# Altium schematic symbol library kmilo17pet-LT_PMIC_LT.SchLib: 2252 symbols (part 24 of 124)
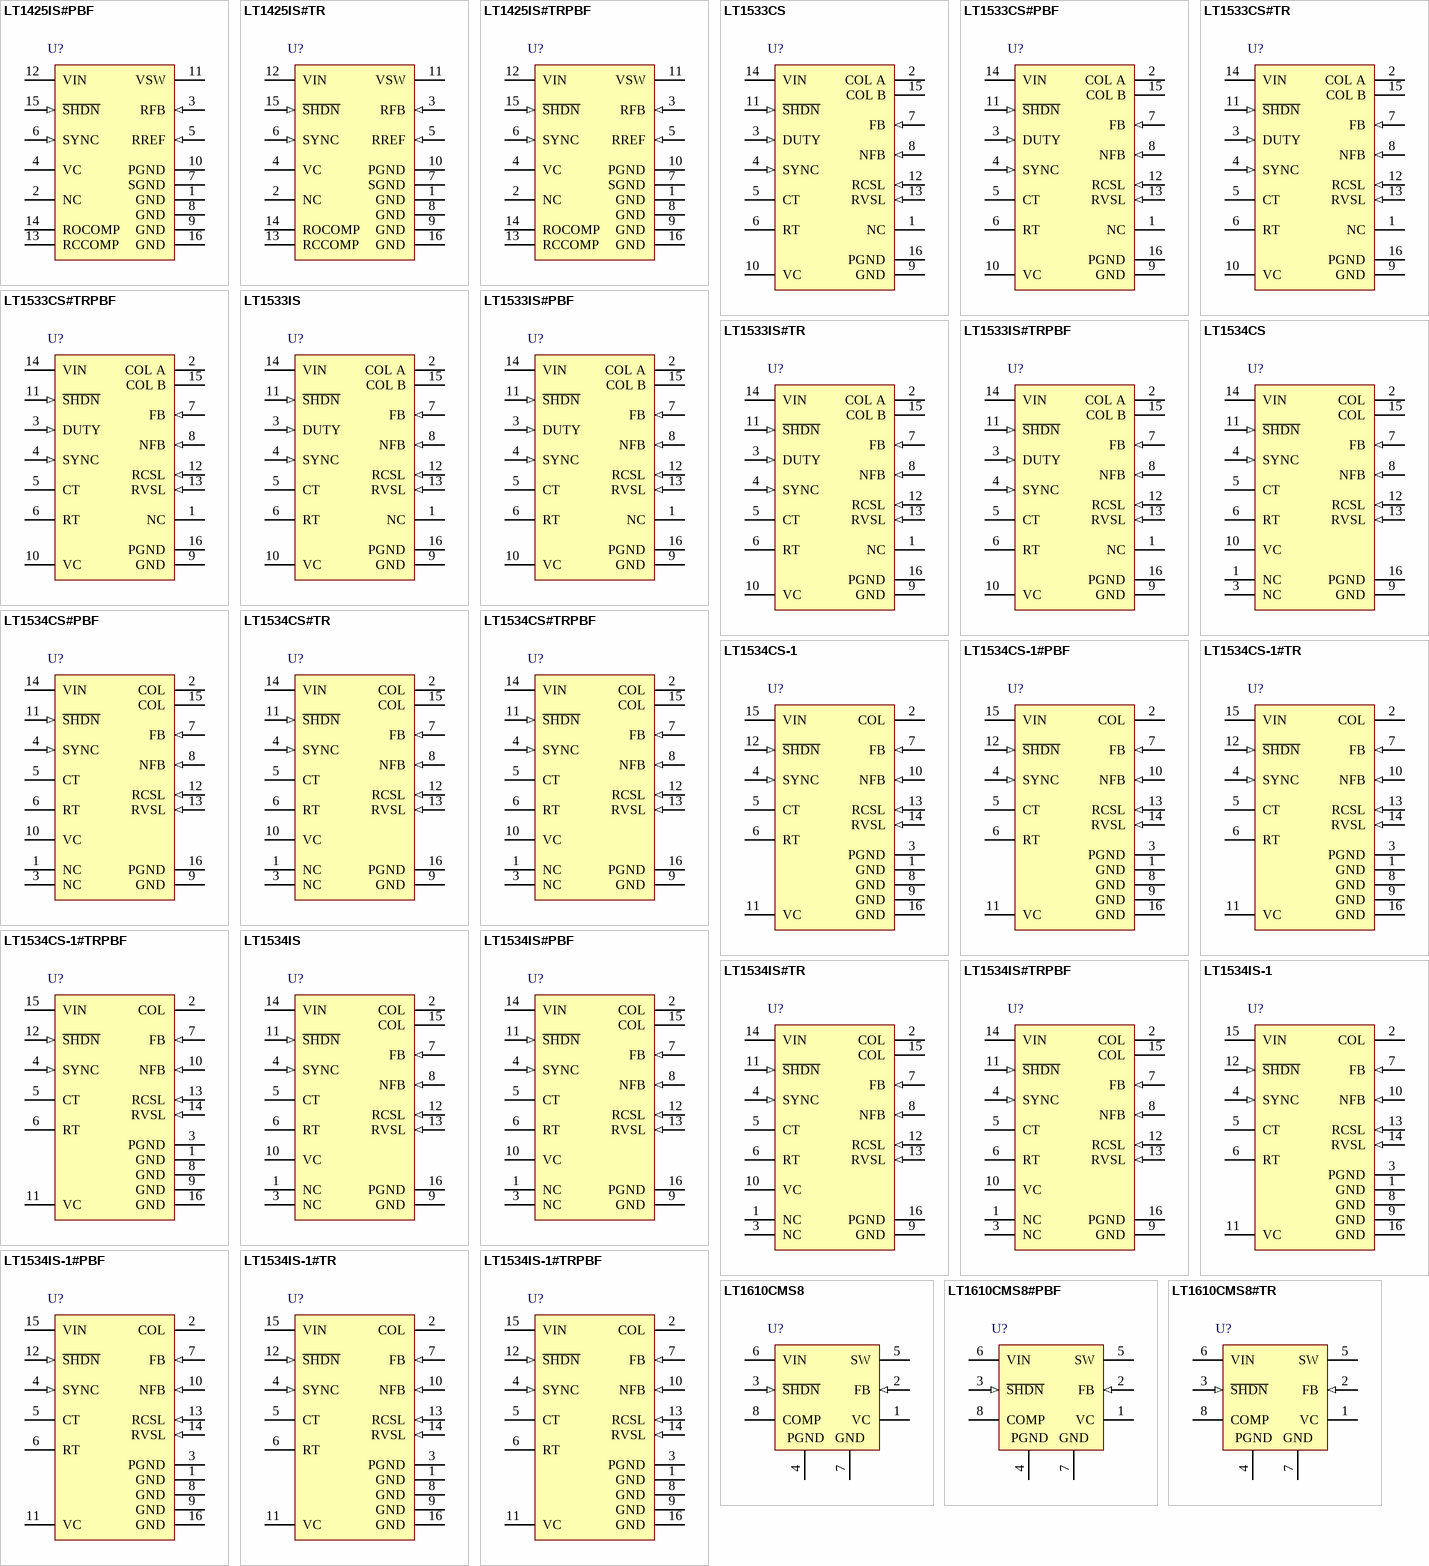
[diagram p94: symbols LT1425IS#PBF to LT1610CMS8#TR]

## LT1534IS-1#TR
designator U?
Ultralow Noise 2 A Switching Regulator, 16-pin SOP (S-16), -40 to 125 degC, Tape and Reel; Manufacturer: Linear Technology; PartNumber: LT1534IS-1#TR; Number of Outputs: 1; PackageReference: S-16; PackageDescription: 16-Pin Plastic Small Outline, Body 9.9 x 3.9 mm, Pitch 1.27 mm; Supplier 1: Digi-Key; Supplier Part Number 1: LT1534IS-1#TR-ND; RoHS: FALSE
footprint LT-S-16_N (SOP, 16-Leads, Body 10x4mm, Pitch 1.27mm, IPC Medium Density)
footprint LT-S-16_L (SOP, 16-Leads, Body 10x4mm, Pitch 1.27mm, IPC High Density)
footprint LT-S-16_M (SOP, 16-Leads, Body 10x4mm, Pitch 1.27mm, IPC Low Density)
pins: 1 GND (power) "Signal Ground. The internal error amplifier, negative feedback amplifier, oscillator, slew control circuitry and the bandgap reference are referred to this ground. Keep the connection to the feedback divider and VC (See Datasheet)", 2 COL (power) "These two pins should be connected together externally to create the collector of the power switch. The emitter returns to PGND through a sense resistor. Large currents flow into these pins so it is desirable to keep (See Datasheet)", 3 PGND (power) "Power Switch Ground. This ground comes from the emitters of the power switches. In normal operation this pin should have approximately 25nH inductance to ground. This can be done by trace inductance (approximately 1") or (See Datasheet)", 4 SYNC (in) "The SYNC pin can be used to synchronize the oscillator to an external clock (see Oscillator Sync inApplications Information section for more details). The SYNC pin may either be floated or tied to ground if not used.", 5 CT "The oscillator capacitor pin is used in conjunction with RT to set the oscillator frequency. For RT = 16.9k,", 6 RT "The oscillator resistor pin is used to set the charge and discharge currents of the oscillator capacitor. The nominal value is 16.9k. It is possible to adjust this resistance +/-25% to get a more accurate oscillator (See Datasheet)", 7 FB (in) "The feedback pin is used for positive voltage sensing and oscillator frequency shifting during start-up and short-circuit conditions. It is the inverting input to the error amplifier. The noninverting input of this amplifier (See Datasheet)", 8 GND (power) "Signal Ground. The internal error amplifier, negative feedback amplifier, oscillator, slew control circuitry and the bandgap reference are referred to this ground. Keep the connection to the feedback divider and VC (See Datasheet)", 9 GND (power) "Signal Ground. The internal error amplifier, negative feedback amplifier, oscillator, slew control circuitry and the bandgap reference are referred to this ground. Keep the connection to the feedback divider and VC (See Datasheet)", 10 NFB (in) "The negative voltage feedback pin is used for sensing a negative output voltage. The pin is connected to the inverting input of the negative feedback amplifier through a 100k source resistor. The negative feedback amplifier (See Datasheet)", 11 VC "The compensation pin is used for frequency compensation and current limiting. It is the output of the error amplifier and the input of the current comparator. Loop frequency compensation can be performed with an RC network (See Datasheet)", 12 ~{SHDN} (in) "The shutdown pin is used for disabling the switcher. Grounding this pin will disable all internal circuitry. Normally this output can be tied high (to VIN) or may be left floating.", 13 RCSL (in) "A resistor to ground sets the current slew rate for the power switch. The minimum resistor value is 3.9k and the maximum value is 68k. Current slew will be approximately", 14 RVSL (in) "A resistor to ground sets the voltage slew rate for the power switch collector. The minimum resistor value is 3.9k and the maximum value is 68k. Voltage slew will be approximately", 15 VIN (power) "Input Supply Pin. Bypass this pin with a>=4.7uF low ESR capacitor. When VIN is below 2.55V the part will go into undervoltage lockout where it will stop output switching and pull the VC pin low.", 16 GND (power) "Signal Ground. The internal error amplifier, negative feedback amplifier, oscillator, slew control circuitry and the bandgap reference are referred to this ground. Keep the connection to the feedback divider and VC (See Datasheet)"

## LT1534IS-1#TRPBF
designator U?
Ultralow Noise 2 A Switching Regulator, 16-pin SOP (S-16), -40 to 125 degC, Pb-Free, Tape and Reel; Manufacturer: Linear Technology; PartNumber: LT1534IS-1#TRPBF; Number of Outputs: 1; PackageReference: S-16; PackageDescription: 16-Pin Plastic Small Outline, Body 9.9 x 3.9 mm, Pitch 1.27 mm; Supplier 1: Digi-Key; Supplier Part Number 1: LT1534IS-1#TRPBF-ND; RoHS: TRUE
footprint LT-S-16_N (SOP, 16-Leads, Body 10x4mm, Pitch 1.27mm, IPC Medium Density)
footprint LT-S-16_L (SOP, 16-Leads, Body 10x4mm, Pitch 1.27mm, IPC High Density)
footprint LT-S-16_M (SOP, 16-Leads, Body 10x4mm, Pitch 1.27mm, IPC Low Density)
pins: 1 GND (power) "Signal Ground. The internal error amplifier, negative feedback amplifier, oscillator, slew control circuitry and the bandgap reference are referred to this ground. Keep the connection to the feedback divider and VC (See Datasheet)", 2 COL (power) "These two pins should be connected together externally to create the collector of the power switch. The emitter returns to PGND through a sense resistor. Large currents flow into these pins so it is desirable to keep (See Datasheet)", 3 PGND (power) "Power Switch Ground. This ground comes from the emitters of the power switches. In normal operation this pin should have approximately 25nH inductance to ground. This can be done by trace inductance (approximately 1") or (See Datasheet)", 4 SYNC (in) "The SYNC pin can be used to synchronize the oscillator to an external clock (see Oscillator Sync inApplications Information section for more details). The SYNC pin may either be floated or tied to ground if not used.", 5 CT "The oscillator capacitor pin is used in conjunction with RT to set the oscillator frequency. For RT = 16.9k,", 6 RT "The oscillator resistor pin is used to set the charge and discharge currents of the oscillator capacitor. The nominal value is 16.9k. It is possible to adjust this resistance +/-25% to get a more accurate oscillator (See Datasheet)", 7 FB (in) "The feedback pin is used for positive voltage sensing and oscillator frequency shifting during start-up and short-circuit conditions. It is the inverting input to the error amplifier. The noninverting input of this amplifier (See Datasheet)", 8 GND (power) "Signal Ground. The internal error amplifier, negative feedback amplifier, oscillator, slew control circuitry and the bandgap reference are referred to this ground. Keep the connection to the feedback divider and VC (See Datasheet)", 9 GND (power) "Signal Ground. The internal error amplifier, negative feedback amplifier, oscillator, slew control circuitry and the bandgap reference are referred to this ground. Keep the connection to the feedback divider and VC (See Datasheet)", 10 NFB (in) "The negative voltage feedback pin is used for sensing a negative output voltage. The pin is connected to the inverting input of the negative feedback amplifier through a 100k source resistor. The negative feedback amplifier (See Datasheet)", 11 VC "The compensation pin is used for frequency compensation and current limiting. It is the output of the error amplifier and the input of the current comparator. Loop frequency compensation can be performed with an RC network (See Datasheet)", 12 ~{SHDN} (in) "The shutdown pin is used for disabling the switcher. Grounding this pin will disable all internal circuitry. Normally this output can be tied high (to VIN) or may be left floating.", 13 RCSL (in) "A resistor to ground sets the current slew rate for the power switch. The minimum resistor value is 3.9k and the maximum value is 68k. Current slew will be approximately", 14 RVSL (in) "A resistor to ground sets the voltage slew rate for the power switch collector. The minimum resistor value is 3.9k and the maximum value is 68k. Voltage slew will be approximately", 15 VIN (power) "Input Supply Pin. Bypass this pin with a>=4.7uF low ESR capacitor. When VIN is below 2.55V the part will go into undervoltage lockout where it will stop output switching and pull the VC pin low.", 16 GND (power) "Signal Ground. The internal error amplifier, negative feedback amplifier, oscillator, slew control circuitry and the bandgap reference are referred to this ground. Keep the connection to the feedback divider and VC (See Datasheet)"

## LT1610CMS8
designator U?
1.7 MHz, Single Cell Micropower DC/DC Converter, 8-pin SOP (MS8-8), 0 to 70 degC; Manufacturer: Linear Technology; PartNumber: LT1610CMS8; Number of Outputs: 1; PackageReference: MS8; PackageDescription: 8-Pin Plastic MSOP, Body 3 x 3 mm, Pitch 0.65 mm; Supplier 1: Digi-Key; Supplier Part Number 1: LT1610CMS8-ND; RoHS: FALSE
footprint LT-MS8_N (SOP, 8-Leads, Body 3.1x3.1mm, Pitch 0.65mm, IPC Medium Density)
footprint LT-MS8_L (SOP, 8-Leads, Body 3.1x3.1mm, Pitch 0.65mm, IPC High Density)
footprint LT-MS8_M (SOP, 8-Leads, Body 3.1x3.1mm, Pitch 0.65mm, IPC Low Density)
pins: 1 VC "Error Amplifier Output. Frequency compensation network must be connected to this pin, either internal (COMP pin) or external series RC to ground. 220kohm/ 220pF typical value.", 2 FB (in) "Feedback Pin. Reference voltage is 1.23V. Connect resistive divider tap here. Minimize trace area at FB. Set VOUT according to VOUT = 1.23V (1 + R1/R2).", 3 ~{SHDN} (in) "Shutdown. Ground this pin to turn off device. Tie to 1V or more to enable.", 4 PGND (power) "Power Ground. Tie directly to local ground plane.", 5 SW (power) "Switch Pin. Connect inductor/diode here. Minimize trace area at this pin to keep EMI down.", 6 VIN (power) "Input Supply Pin. Must be locally bypassed.", 7 GND (power) "Signal Ground. Carries all device ground current except switch current. Tie to local ground plane.", 8 COMP "Internal Compensation Network. Tie to VC pin, or let float if external compensation is used. Output capacitor must be tantalum if COMP pin is used for compensation."

## LT1610CMS8#PBF
designator U?
1.7 MHz, Single Cell Micropower DC/DC Converter, 8-pin SOP (MS8-8), 0 to 70 degC, Pb-Free; Manufacturer: Linear Technology; PartNumber: LT1610CMS8#PBF; Number of Outputs: 1; PackageReference: MS8; PackageDescription: 8-Pin Plastic MSOP, Body 3 x 3 mm, Pitch 0.65 mm; Supplier 1: Digi-Key; Supplier Part Number 1: LT1610CMS8#PBF-ND; RoHS: TRUE
footprint LT-MS8_N (SOP, 8-Leads, Body 3.1x3.1mm, Pitch 0.65mm, IPC Medium Density)
footprint LT-MS8_L (SOP, 8-Leads, Body 3.1x3.1mm, Pitch 0.65mm, IPC High Density)
footprint LT-MS8_M (SOP, 8-Leads, Body 3.1x3.1mm, Pitch 0.65mm, IPC Low Density)
pins: 1 VC "Error Amplifier Output. Frequency compensation network must be connected to this pin, either internal (COMP pin) or external series RC to ground. 220kohm/ 220pF typical value.", 2 FB (in) "Feedback Pin. Reference voltage is 1.23V. Connect resistive divider tap here. Minimize trace area at FB. Set VOUT according to VOUT = 1.23V (1 + R1/R2).", 3 ~{SHDN} (in) "Shutdown. Ground this pin to turn off device. Tie to 1V or more to enable.", 4 PGND (power) "Power Ground. Tie directly to local ground plane.", 5 SW (power) "Switch Pin. Connect inductor/diode here. Minimize trace area at this pin to keep EMI down.", 6 VIN (power) "Input Supply Pin. Must be locally bypassed.", 7 GND (power) "Signal Ground. Carries all device ground current except switch current. Tie to local ground plane.", 8 COMP "Internal Compensation Network. Tie to VC pin, or let float if external compensation is used. Output capacitor must be tantalum if COMP pin is used for compensation."

## LT1610CMS8#TR
designator U?
1.7 MHz, Single Cell Micropower DC/DC Converter, 8-pin SOP (MS8-8), 0 to 70 degC, Tape and Reel; Manufacturer: Linear Technology; PartNumber: LT1610CMS8#TR; Number of Outputs: 1; PackageReference: MS8; PackageDescription: 8-Pin Plastic MSOP, Body 3 x 3 mm, Pitch 0.65 mm; Supplier 1: Digi-Key; Supplier Part Number 1: LT1610CMS8#TR-ND; RoHS: FALSE
footprint LT-MS8_N (SOP, 8-Leads, Body 3.1x3.1mm, Pitch 0.65mm, IPC Medium Density)
footprint LT-MS8_L (SOP, 8-Leads, Body 3.1x3.1mm, Pitch 0.65mm, IPC High Density)
footprint LT-MS8_M (SOP, 8-Leads, Body 3.1x3.1mm, Pitch 0.65mm, IPC Low Density)
pins: 1 VC "Error Amplifier Output. Frequency compensation network must be connected to this pin, either internal (COMP pin) or external series RC to ground. 220kohm/ 220pF typical value.", 2 FB (in) "Feedback Pin. Reference voltage is 1.23V. Connect resistive divider tap here. Minimize trace area at FB. Set VOUT according to VOUT = 1.23V (1 + R1/R2).", 3 ~{SHDN} (in) "Shutdown. Ground this pin to turn off device. Tie to 1V or more to enable.", 4 PGND (power) "Power Ground. Tie directly to local ground plane.", 5 SW (power) "Switch Pin. Connect inductor/diode here. Minimize trace area at this pin to keep EMI down.", 6 VIN (power) "Input Supply Pin. Must be locally bypassed.", 7 GND (power) "Signal Ground. Carries all device ground current except switch current. Tie to local ground plane.", 8 COMP "Internal Compensation Network. Tie to VC pin, or let float if external compensation is used. Output capacitor must be tantalum if COMP pin is used for compensation."

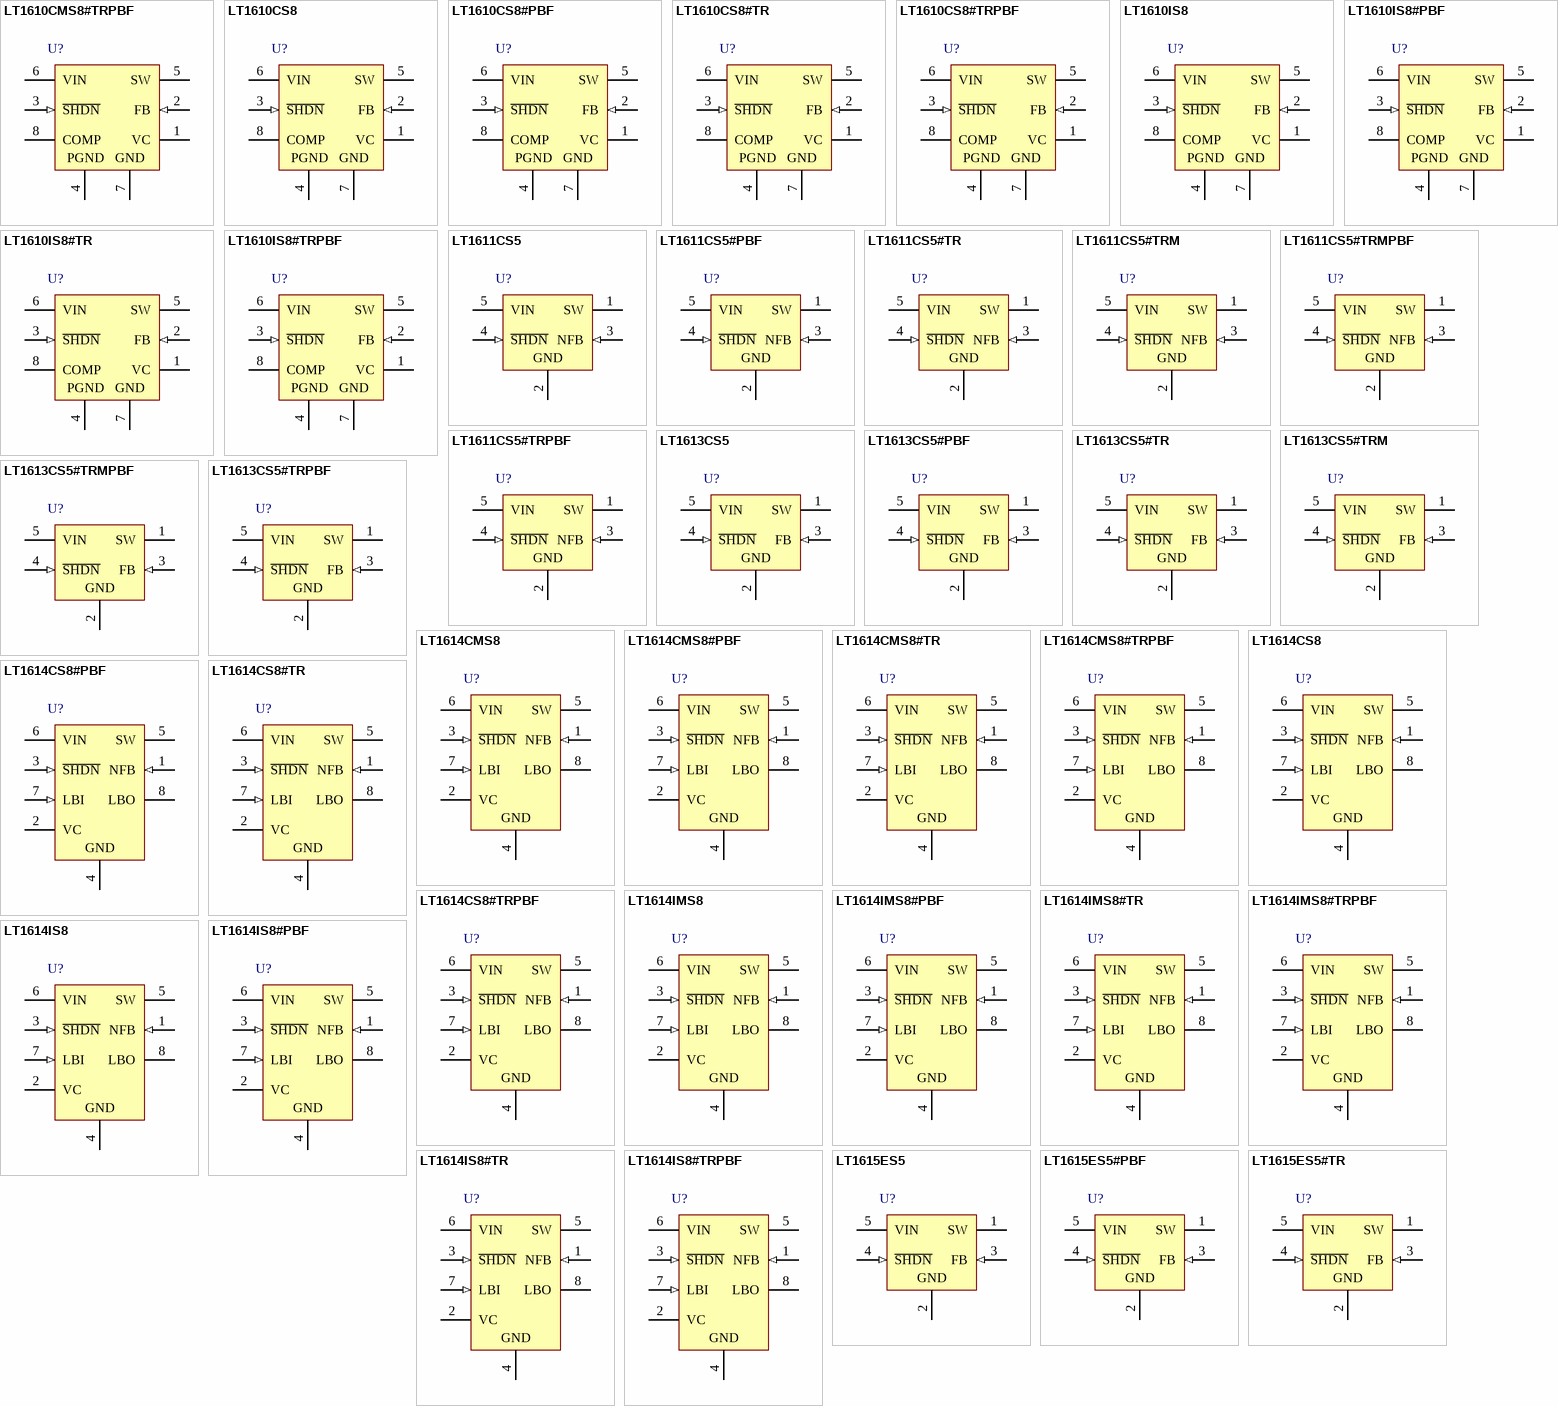
[diagram p16: symbols LT1610CMS8#TRPBF to LT1615ES5#TR]

## LT1610CMS8#TRPBF
designator U?
1.7 MHz, Single Cell Micropower DC/DC Converter, 8-pin SOP (MS8-8), 0 to 70 degC, Pb-Free, Tape and Reel; Manufacturer: Linear Technology; PartNumber: LT1610CMS8#TRPBF; Number of Outputs: 1; PackageReference: MS8; PackageDescription: 8-Pin Plastic MSOP, Body 3 x 3 mm, Pitch 0.65 mm; Supplier 1: Digi-Key; Supplier Part Number 1: LT1610CMS8#TRPBF-ND; RoHS: TRUE
footprint LT-MS8_N (SOP, 8-Leads, Body 3.1x3.1mm, Pitch 0.65mm, IPC Medium Density)
footprint LT-MS8_L (SOP, 8-Leads, Body 3.1x3.1mm, Pitch 0.65mm, IPC High Density)
footprint LT-MS8_M (SOP, 8-Leads, Body 3.1x3.1mm, Pitch 0.65mm, IPC Low Density)
pins: 1 VC "Error Amplifier Output. Frequency compensation network must be connected to this pin, either internal (COMP pin) or external series RC to ground. 220kohm/ 220pF typical value.", 2 FB (in) "Feedback Pin. Reference voltage is 1.23V. Connect resistive divider tap here. Minimize trace area at FB. Set VOUT according to VOUT = 1.23V (1 + R1/R2).", 3 ~{SHDN} (in) "Shutdown. Ground this pin to turn off device. Tie to 1V or more to enable.", 4 PGND (power) "Power Ground. Tie directly to local ground plane.", 5 SW (power) "Switch Pin. Connect inductor/diode here. Minimize trace area at this pin to keep EMI down.", 6 VIN (power) "Input Supply Pin. Must be locally bypassed.", 7 GND (power) "Signal Ground. Carries all device ground current except switch current. Tie to local ground plane.", 8 COMP "Internal Compensation Network. Tie to VC pin, or let float if external compensation is used. Output capacitor must be tantalum if COMP pin is used for compensation."

## LT1610CS8
designator U?
1.7 MHz, Single Cell Micropower DC/DC Converter, 8-pin SOIC (S8-8), 0 to 70 degC; Manufacturer: Linear Technology; PartNumber: LT1610CS8; Number of Outputs: 1; PackageReference: S8-8; PackageDescription: 8-Pin Plastic Small Outline (Narrow .150 Inch), Body 4.9 x 3.9 mm, Pitch 1.27 mm; Supplier 1: Digi-Key; Supplier Part Number 1: LT1610CS8-ND; RoHS: FALSE
footprint LT-S8-8_N (SOIC, 8-Leads, Body 5x4mm, Pitch 1.27mm, IPC Medium Density)
footprint LT-S8-8_L (SOIC, 8-Leads, Body 5x4mm, Pitch 1.27mm, IPC High Density)
footprint LT-S8-8_M (SOIC, 8-Leads, Body 5x4mm, Pitch 1.27mm, IPC Low Density)
pins: 1 VC "Error Amplifier Output. Frequency compensation network must be connected to this pin, either internal (COMP pin) or external series RC to ground. 220kohm/ 220pF typical value.", 2 FB (in) "Feedback Pin. Reference voltage is 1.23V. Connect resistive divider tap here. Minimize trace area at FB. Set VOUT according to VOUT = 1.23V (1 + R1/R2).", 3 ~{SHDN} (in) "Shutdown. Ground this pin to turn off device. Tie to 1V or more to enable.", 4 PGND (power) "Power Ground. Tie directly to local ground plane.", 5 SW (power) "Switch Pin. Connect inductor/diode here. Minimize trace area at this pin to keep EMI down.", 6 VIN (power) "Input Supply Pin. Must be locally bypassed.", 7 GND (power) "Signal Ground. Carries all device ground current except switch current. Tie to local ground plane.", 8 COMP "Internal Compensation Network. Tie to VC pin, or let float if external compensation is used. Output capacitor must be tantalum if COMP pin is used for compensation."

## LT1610CS8#PBF
designator U?
1.7 MHz, Single Cell Micropower DC/DC Converter, 8-pin SOIC (S8-8), 0 to 70 degC, Pb-Free; Manufacturer: Linear Technology; PartNumber: LT1610CS8#PBF; Number of Outputs: 1; PackageReference: S8-8; PackageDescription: 8-Pin Plastic Small Outline (Narrow .150 Inch), Body 4.9 x 3.9 mm, Pitch 1.27 mm; Supplier 1: Digi-Key; Supplier Part Number 1: LT1610CS8#PBF-ND; RoHS: TRUE
footprint LT-S8-8_N (SOIC, 8-Leads, Body 5x4mm, Pitch 1.27mm, IPC Medium Density)
footprint LT-S8-8_L (SOIC, 8-Leads, Body 5x4mm, Pitch 1.27mm, IPC High Density)
footprint LT-S8-8_M (SOIC, 8-Leads, Body 5x4mm, Pitch 1.27mm, IPC Low Density)
pins: 1 VC "Error Amplifier Output. Frequency compensation network must be connected to this pin, either internal (COMP pin) or external series RC to ground. 220kohm/ 220pF typical value.", 2 FB (in) "Feedback Pin. Reference voltage is 1.23V. Connect resistive divider tap here. Minimize trace area at FB. Set VOUT according to VOUT = 1.23V (1 + R1/R2).", 3 ~{SHDN} (in) "Shutdown. Ground this pin to turn off device. Tie to 1V or more to enable.", 4 PGND (power) "Power Ground. Tie directly to local ground plane.", 5 SW (power) "Switch Pin. Connect inductor/diode here. Minimize trace area at this pin to keep EMI down.", 6 VIN (power) "Input Supply Pin. Must be locally bypassed.", 7 GND (power) "Signal Ground. Carries all device ground current except switch current. Tie to local ground plane.", 8 COMP "Internal Compensation Network. Tie to VC pin, or let float if external compensation is used. Output capacitor must be tantalum if COMP pin is used for compensation."

## LT1610CS8#TR
designator U?
1.7 MHz, Single Cell Micropower DC/DC Converter, 8-pin SOIC (S8-8), 0 to 70 degC, Tape and Reel; Manufacturer: Linear Technology; PartNumber: LT1610CS8#TR; Number of Outputs: 1; PackageReference: S8-8; PackageDescription: 8-Pin Plastic Small Outline (Narrow .150 Inch), Body 4.9 x 3.9 mm, Pitch 1.27 mm; Supplier 1: Digi-Key; Supplier Part Number 1: LT1610CS8#TR-ND; RoHS: FALSE
footprint LT-S8-8_N (SOIC, 8-Leads, Body 5x4mm, Pitch 1.27mm, IPC Medium Density)
footprint LT-S8-8_L (SOIC, 8-Leads, Body 5x4mm, Pitch 1.27mm, IPC High Density)
footprint LT-S8-8_M (SOIC, 8-Leads, Body 5x4mm, Pitch 1.27mm, IPC Low Density)
pins: 1 VC "Error Amplifier Output. Frequency compensation network must be connected to this pin, either internal (COMP pin) or external series RC to ground. 220kohm/ 220pF typical value.", 2 FB (in) "Feedback Pin. Reference voltage is 1.23V. Connect resistive divider tap here. Minimize trace area at FB. Set VOUT according to VOUT = 1.23V (1 + R1/R2).", 3 ~{SHDN} (in) "Shutdown. Ground this pin to turn off device. Tie to 1V or more to enable.", 4 PGND (power) "Power Ground. Tie directly to local ground plane.", 5 SW (power) "Switch Pin. Connect inductor/diode here. Minimize trace area at this pin to keep EMI down.", 6 VIN (power) "Input Supply Pin. Must be locally bypassed.", 7 GND (power) "Signal Ground. Carries all device ground current except switch current. Tie to local ground plane.", 8 COMP "Internal Compensation Network. Tie to VC pin, or let float if external compensation is used. Output capacitor must be tantalum if COMP pin is used for compensation."

## LT1610CS8#TRPBF
designator U?
1.7 MHz, Single Cell Micropower DC/DC Converter, 8-pin SOIC (S8-8), 0 to 70 degC, Pb-Free, Tape and Reel; Manufacturer: Linear Technology; PartNumber: LT1610CS8#TRPBF; Number of Outputs: 1; PackageReference: S8-8; PackageDescription: 8-Pin Plastic Small Outline (Narrow .150 Inch), Body 4.9 x 3.9 mm, Pitch 1.27 mm; Supplier 1: Digi-Key; Supplier Part Number 1: LT1610CS8#TRPBF-ND; RoHS: TRUE
footprint LT-S8-8_N (SOIC, 8-Leads, Body 5x4mm, Pitch 1.27mm, IPC Medium Density)
footprint LT-S8-8_L (SOIC, 8-Leads, Body 5x4mm, Pitch 1.27mm, IPC High Density)
footprint LT-S8-8_M (SOIC, 8-Leads, Body 5x4mm, Pitch 1.27mm, IPC Low Density)
pins: 1 VC "Error Amplifier Output. Frequency compensation network must be connected to this pin, either internal (COMP pin) or external series RC to ground. 220kohm/ 220pF typical value.", 2 FB (in) "Feedback Pin. Reference voltage is 1.23V. Connect resistive divider tap here. Minimize trace area at FB. Set VOUT according to VOUT = 1.23V (1 + R1/R2).", 3 ~{SHDN} (in) "Shutdown. Ground this pin to turn off device. Tie to 1V or more to enable.", 4 PGND (power) "Power Ground. Tie directly to local ground plane.", 5 SW (power) "Switch Pin. Connect inductor/diode here. Minimize trace area at this pin to keep EMI down.", 6 VIN (power) "Input Supply Pin. Must be locally bypassed.", 7 GND (power) "Signal Ground. Carries all device ground current except switch current. Tie to local ground plane.", 8 COMP "Internal Compensation Network. Tie to VC pin, or let float if external compensation is used. Output capacitor must be tantalum if COMP pin is used for compensation."

## LT1610IS8
designator U?
1.7 MHz, Single Cell Micropower DC/DC Converter, 8-pin SOIC (S8-8), -40 to 85 degC; Manufacturer: Linear Technology; PartNumber: LT1610IS8; Number of Outputs: 1; PackageReference: S8-8; PackageDescription: 8-Pin Plastic Small Outline (Narrow .150 Inch), Body 4.9 x 3.9 mm, Pitch 1.27 mm; Supplier 1: Digi-Key; Supplier Part Number 1: LT1610IS8-ND; RoHS: FALSE
footprint LT-S8-8_N (SOIC, 8-Leads, Body 5x4mm, Pitch 1.27mm, IPC Medium Density)
footprint LT-S8-8_L (SOIC, 8-Leads, Body 5x4mm, Pitch 1.27mm, IPC High Density)
footprint LT-S8-8_M (SOIC, 8-Leads, Body 5x4mm, Pitch 1.27mm, IPC Low Density)
pins: 1 VC "Error Amplifier Output. Frequency compensation network must be connected to this pin, either internal (COMP pin) or external series RC to ground. 220kohm/ 220pF typical value.", 2 FB (in) "Feedback Pin. Reference voltage is 1.23V. Connect resistive divider tap here. Minimize trace area at FB. Set VOUT according to VOUT = 1.23V (1 + R1/R2).", 3 ~{SHDN} (in) "Shutdown. Ground this pin to turn off device. Tie to 1V or more to enable.", 4 PGND (power) "Power Ground. Tie directly to local ground plane.", 5 SW (power) "Switch Pin. Connect inductor/diode here. Minimize trace area at this pin to keep EMI down.", 6 VIN (power) "Input Supply Pin. Must be locally bypassed.", 7 GND (power) "Signal Ground. Carries all device ground current except switch current. Tie to local ground plane.", 8 COMP "Internal Compensation Network. Tie to VC pin, or let float if external compensation is used. Output capacitor must be tantalum if COMP pin is used for compensation."

## LT1610IS8#PBF
designator U?
1.7 MHz, Single Cell Micropower DC/DC Converter, 8-pin SOIC (S8-8), -40 to 85 degC, Pb-Free; Manufacturer: Linear Technology; PartNumber: LT1610IS8#PBF; Number of Outputs: 1; PackageReference: S8-8; PackageDescription: 8-Pin Plastic Small Outline (Narrow .150 Inch), Body 4.9 x 3.9 mm, Pitch 1.27 mm; Supplier 1: Digi-Key; Supplier Part Number 1: LT1610IS8#PBF-ND; RoHS: TRUE
footprint LT-S8-8_N (SOIC, 8-Leads, Body 5x4mm, Pitch 1.27mm, IPC Medium Density)
footprint LT-S8-8_L (SOIC, 8-Leads, Body 5x4mm, Pitch 1.27mm, IPC High Density)
footprint LT-S8-8_M (SOIC, 8-Leads, Body 5x4mm, Pitch 1.27mm, IPC Low Density)
pins: 1 VC "Error Amplifier Output. Frequency compensation network must be connected to this pin, either internal (COMP pin) or external series RC to ground. 220kohm/ 220pF typical value.", 2 FB (in) "Feedback Pin. Reference voltage is 1.23V. Connect resistive divider tap here. Minimize trace area at FB. Set VOUT according to VOUT = 1.23V (1 + R1/R2).", 3 ~{SHDN} (in) "Shutdown. Ground this pin to turn off device. Tie to 1V or more to enable.", 4 PGND (power) "Power Ground. Tie directly to local ground plane.", 5 SW (power) "Switch Pin. Connect inductor/diode here. Minimize trace area at this pin to keep EMI down.", 6 VIN (power) "Input Supply Pin. Must be locally bypassed.", 7 GND (power) "Signal Ground. Carries all device ground current except switch current. Tie to local ground plane.", 8 COMP "Internal Compensation Network. Tie to VC pin, or let float if external compensation is used. Output capacitor must be tantalum if COMP pin is used for compensation."

## LT1610IS8#TR
designator U?
1.7 MHz, Single Cell Micropower DC/DC Converter, 8-pin SOIC (S8-8), -40 to 85 degC, Tape and Reel; Manufacturer: Linear Technology; PartNumber: LT1610IS8#TR; Number of Outputs: 1; PackageReference: S8-8; PackageDescription: 8-Pin Plastic Small Outline (Narrow .150 Inch), Body 4.9 x 3.9 mm, Pitch 1.27 mm; Supplier 1: Digi-Key; Supplier Part Number 1: LT1610IS8#TR-ND; RoHS: FALSE
footprint LT-S8-8_N (SOIC, 8-Leads, Body 5x4mm, Pitch 1.27mm, IPC Medium Density)
footprint LT-S8-8_L (SOIC, 8-Leads, Body 5x4mm, Pitch 1.27mm, IPC High Density)
footprint LT-S8-8_M (SOIC, 8-Leads, Body 5x4mm, Pitch 1.27mm, IPC Low Density)
pins: 1 VC "Error Amplifier Output. Frequency compensation network must be connected to this pin, either internal (COMP pin) or external series RC to ground. 220kohm/ 220pF typical value.", 2 FB (in) "Feedback Pin. Reference voltage is 1.23V. Connect resistive divider tap here. Minimize trace area at FB. Set VOUT according to VOUT = 1.23V (1 + R1/R2).", 3 ~{SHDN} (in) "Shutdown. Ground this pin to turn off device. Tie to 1V or more to enable.", 4 PGND (power) "Power Ground. Tie directly to local ground plane.", 5 SW (power) "Switch Pin. Connect inductor/diode here. Minimize trace area at this pin to keep EMI down.", 6 VIN (power) "Input Supply Pin. Must be locally bypassed.", 7 GND (power) "Signal Ground. Carries all device ground current except switch current. Tie to local ground plane.", 8 COMP "Internal Compensation Network. Tie to VC pin, or let float if external compensation is used. Output capacitor must be tantalum if COMP pin is used for compensation."

## LT1610IS8#TRPBF
designator U?
1.7 MHz, Single Cell Micropower DC/DC Converter, 8-pin SOIC (S8-8), -40 to 85 degC, Pb-Free, Tape and Reel; Manufacturer: Linear Technology; PartNumber: LT1610IS8#TRPBF; Number of Outputs: 1; PackageReference: S8-8; PackageDescription: 8-Pin Plastic Small Outline (Narrow .150 Inch), Body 4.9 x 3.9 mm, Pitch 1.27 mm; Supplier 1: Digi-Key; Supplier Part Number 1: LT1610IS8#TRPBF-ND; RoHS: TRUE
footprint LT-S8-8_N (SOIC, 8-Leads, Body 5x4mm, Pitch 1.27mm, IPC Medium Density)
footprint LT-S8-8_L (SOIC, 8-Leads, Body 5x4mm, Pitch 1.27mm, IPC High Density)
footprint LT-S8-8_M (SOIC, 8-Leads, Body 5x4mm, Pitch 1.27mm, IPC Low Density)
pins: 1 VC "Error Amplifier Output. Frequency compensation network must be connected to this pin, either internal (COMP pin) or external series RC to ground. 220kohm/ 220pF typical value.", 2 FB (in) "Feedback Pin. Reference voltage is 1.23V. Connect resistive divider tap here. Minimize trace area at FB. Set VOUT according to VOUT = 1.23V (1 + R1/R2).", 3 ~{SHDN} (in) "Shutdown. Ground this pin to turn off device. Tie to 1V or more to enable.", 4 PGND (power) "Power Ground. Tie directly to local ground plane.", 5 SW (power) "Switch Pin. Connect inductor/diode here. Minimize trace area at this pin to keep EMI down.", 6 VIN (power) "Input Supply Pin. Must be locally bypassed.", 7 GND (power) "Signal Ground. Carries all device ground current except switch current. Tie to local ground plane.", 8 COMP "Internal Compensation Network. Tie to VC pin, or let float if external compensation is used. Output capacitor must be tantalum if COMP pin is used for compensation."

## LT1611CS5
designator U?
Inverting 1.4 MHz Switching Regulator, 5-pin SOT23 (S5-5), 0 to 70 degC; Manufacturer: Linear Technology; PartNumber: LT1611CS5; Number of Outputs: 1; PackageReference: S5-5; PackageDescription: 5-Pin Plastic SOT-23, Body 1.625 x 2.90 mm, Pitch 0.95 mm; RoHS: FALSE
footprint LT-S5-5-SOT-23_N (SOT23, 5-Leads, Body 3x1.75mm, Pitch 0.95mm, IPC Medium Density)
footprint LT-S5-5-SOT-23_L (SOT23, 5-Leads, Body 3x1.75mm, Pitch 0.95mm, IPC High Density)
footprint LT-S5-5-SOT-23_M (SOT23, 5-Leads, Body 3x1.75mm, Pitch 0.95mm, IPC Low Density)
pins: 1 SW (power) "Switch Pin. Minimize trace area at this pin to keep EMI down.", 2 GND (power) "Ground. Tie directly to local ground plane.", 3 NFB (in) "Negative Feedback Pin.", 4 ~{SHDN} (in) "Shutdown Pin.", 5 VIN (power) "Input Supply Pin. Must be locally bypassed."

## LT1611CS5#PBF
designator U?
Inverting 1.4 MHz Switching Regulator, 5-pin SOT23 (S5-5), 0 to 70 degC, Pb-Free; Manufacturer: Linear Technology; PartNumber: LT1611CS5#PBF; Number of Outputs: 1; PackageReference: S5-5; PackageDescription: 5-Pin Plastic SOT-23, Body 1.625 x 2.90 mm, Pitch 0.95 mm; Supplier 1: Farnell; Supplier Part Number 1: 1531482; RoHS: TRUE
footprint LT-S5-5-SOT-23_N (SOT23, 5-Leads, Body 3x1.75mm, Pitch 0.95mm, IPC Medium Density)
footprint LT-S5-5-SOT-23_L (SOT23, 5-Leads, Body 3x1.75mm, Pitch 0.95mm, IPC High Density)
footprint LT-S5-5-SOT-23_M (SOT23, 5-Leads, Body 3x1.75mm, Pitch 0.95mm, IPC Low Density)
pins: 1 SW (power) "Switch Pin. Minimize trace area at this pin to keep EMI down.", 2 GND (power) "Ground. Tie directly to local ground plane.", 3 NFB (in) "Negative Feedback Pin.", 4 ~{SHDN} (in) "Shutdown Pin.", 5 VIN (power) "Input Supply Pin. Must be locally bypassed."

## LT1611CS5#TR
designator U?
Inverting 1.4 MHz Switching Regulator, 5-pin SOT23 (S5-5), 0 to 70 degC, Tape and Reel; Manufacturer: Linear Technology; PartNumber: LT1611CS5#TR; Number of Outputs: 1; PackageReference: S5-5; PackageDescription: 5-Pin Plastic SOT-23, Body 1.625 x 2.90 mm, Pitch 0.95 mm; Supplier 1: Digi-Key; Supplier Part Number 1: LT1611CS5#TR-ND; RoHS: FALSE
footprint LT-S5-5-SOT-23_N (SOT23, 5-Leads, Body 3x1.75mm, Pitch 0.95mm, IPC Medium Density)
footprint LT-S5-5-SOT-23_L (SOT23, 5-Leads, Body 3x1.75mm, Pitch 0.95mm, IPC High Density)
footprint LT-S5-5-SOT-23_M (SOT23, 5-Leads, Body 3x1.75mm, Pitch 0.95mm, IPC Low Density)
pins: 1 SW (power) "Switch Pin. Minimize trace area at this pin to keep EMI down.", 2 GND (power) "Ground. Tie directly to local ground plane.", 3 NFB (in) "Negative Feedback Pin.", 4 ~{SHDN} (in) "Shutdown Pin.", 5 VIN (power) "Input Supply Pin. Must be locally bypassed."

## LT1611CS5#TRM
designator U?
Inverting 1.4 MHz Switching Regulator, 5-pin SOT23 (S5-5), 0 to 70 degC, Mini Tape and Reel; Manufacturer: Linear Technology; PartNumber: LT1611CS5#TRM; Number of Outputs: 1; PackageReference: S5-5; PackageDescription: 5-Pin Plastic SOT-23, Body 1.625 x 2.90 mm, Pitch 0.95 mm; Supplier 1: Digi-Key; Supplier Part Number 1: LT1611CS5#TRMTR-ND; RoHS: FALSE
footprint LT-S5-5-SOT-23_N (SOT23, 5-Leads, Body 3x1.75mm, Pitch 0.95mm, IPC Medium Density)
footprint LT-S5-5-SOT-23_L (SOT23, 5-Leads, Body 3x1.75mm, Pitch 0.95mm, IPC High Density)
footprint LT-S5-5-SOT-23_M (SOT23, 5-Leads, Body 3x1.75mm, Pitch 0.95mm, IPC Low Density)
pins: 1 SW (power) "Switch Pin. Minimize trace area at this pin to keep EMI down.", 2 GND (power) "Ground. Tie directly to local ground plane.", 3 NFB (in) "Negative Feedback Pin.", 4 ~{SHDN} (in) "Shutdown Pin.", 5 VIN (power) "Input Supply Pin. Must be locally bypassed."

## LT1611CS5#TRMPBF
designator U?
Inverting 1.4 MHz Switching Regulator, 5-pin SOT23 (S5-5), 0 to 70 degC, Pb-Free, Mini Tape and Reel; Manufacturer: Linear Technology; PartNumber: LT1611CS5#TRMPBF; Number of Outputs: 1; PackageReference: S5-5; PackageDescription: 5-Pin Plastic SOT-23, Body 1.625 x 2.90 mm, Pitch 0.95 mm; Supplier 1: Digi-Key; Supplier Part Number 1: LT1611CS5#TRMPBFTR-ND; RoHS: TRUE
footprint LT-S5-5-SOT-23_N (SOT23, 5-Leads, Body 3x1.75mm, Pitch 0.95mm, IPC Medium Density)
footprint LT-S5-5-SOT-23_L (SOT23, 5-Leads, Body 3x1.75mm, Pitch 0.95mm, IPC High Density)
footprint LT-S5-5-SOT-23_M (SOT23, 5-Leads, Body 3x1.75mm, Pitch 0.95mm, IPC Low Density)
pins: 1 SW (power) "Switch Pin. Minimize trace area at this pin to keep EMI down.", 2 GND (power) "Ground. Tie directly to local ground plane.", 3 NFB (in) "Negative Feedback Pin.", 4 ~{SHDN} (in) "Shutdown Pin.", 5 VIN (power) "Input Supply Pin. Must be locally bypassed."

## LT1611CS5#TRPBF
designator U?
Inverting 1.4 MHz Switching Regulator, 5-pin SOT23 (S5-5), 0 to 70 degC, Pb-Free, Tape and Reel; Manufacturer: Linear Technology; PartNumber: LT1611CS5#TRPBF; Number of Outputs: 1; PackageReference: S5-5; PackageDescription: 5-Pin Plastic SOT-23, Body 1.625 x 2.90 mm, Pitch 0.95 mm; Supplier 1: Digi-Key; Supplier Part Number 1: LT1611CS5#TRPBF-ND; RoHS: TRUE
footprint LT-S5-5-SOT-23_N (SOT23, 5-Leads, Body 3x1.75mm, Pitch 0.95mm, IPC Medium Density)
footprint LT-S5-5-SOT-23_L (SOT23, 5-Leads, Body 3x1.75mm, Pitch 0.95mm, IPC High Density)
footprint LT-S5-5-SOT-23_M (SOT23, 5-Leads, Body 3x1.75mm, Pitch 0.95mm, IPC Low Density)
pins: 1 SW (power) "Switch Pin. Minimize trace area at this pin to keep EMI down.", 2 GND (power) "Ground. Tie directly to local ground plane.", 3 NFB (in) "Negative Feedback Pin.", 4 ~{SHDN} (in) "Shutdown Pin.", 5 VIN (power) "Input Supply Pin. Must be locally bypassed."

## LT1613CS5
designator U?
1.4 MHz, Single Cell DC/DC Converter, 5-pin SOT23 (S5-5), 0 to 70 degC; Manufacturer: Linear Technology; PartNumber: LT1613CS5; Number of Outputs: 1; PackageReference: S5-5; PackageDescription: 5-Pin Plastic SOT-23, Body 1.625 x 2.90 mm, Pitch 0.95 mm; RoHS: FALSE
footprint LT-S5-5-SOT-23_N (SOT23, 5-Leads, Body 3x1.75mm, Pitch 0.95mm, IPC Medium Density)
footprint LT-S5-5-SOT-23_L (SOT23, 5-Leads, Body 3x1.75mm, Pitch 0.95mm, IPC High Density)
footprint LT-S5-5-SOT-23_M (SOT23, 5-Leads, Body 3x1.75mm, Pitch 0.95mm, IPC Low Density)
pins: 1 SW (power) "Switch Pin. Connect inductor/diode here. Minimize trace at this pin to reduce EMI.", 2 GND (power) "Ground Pin. Tie directly to local ground plane.", 3 FB (in) "Feedback Pin.", 4 ~{SHDN} (in) "Shutdown Pin.", 5 VIN (power) "Input Supply Pin. Must be locally bypassed."

## LT1613CS5#PBF
designator U?
1.4 MHz, Single Cell DC/DC Converter, 5-pin SOT23 (S5-5), 0 to 70 degC, Pb-Free; Manufacturer: Linear Technology; PartNumber: LT1613CS5#PBF; Number of Outputs: 1; PackageReference: S5-5; PackageDescription: 5-Pin Plastic SOT-23, Body 1.625 x 2.90 mm, Pitch 0.95 mm; Supplier 1: Farnell; Supplier Part Number 1: 2115857; RoHS: TRUE
footprint LT-S5-5-SOT-23_N (SOT23, 5-Leads, Body 3x1.75mm, Pitch 0.95mm, IPC Medium Density)
footprint LT-S5-5-SOT-23_L (SOT23, 5-Leads, Body 3x1.75mm, Pitch 0.95mm, IPC High Density)
footprint LT-S5-5-SOT-23_M (SOT23, 5-Leads, Body 3x1.75mm, Pitch 0.95mm, IPC Low Density)
pins: 1 SW (power) "Switch Pin. Connect inductor/diode here. Minimize trace at this pin to reduce EMI.", 2 GND (power) "Ground Pin. Tie directly to local ground plane.", 3 FB (in) "Feedback Pin.", 4 ~{SHDN} (in) "Shutdown Pin.", 5 VIN (power) "Input Supply Pin. Must be locally bypassed."

## LT1613CS5#TR
designator U?
1.4 MHz, Single Cell DC/DC Converter, 5-pin SOT23 (S5-5), 0 to 70 degC, Tape and Reel; Manufacturer: Linear Technology; PartNumber: LT1613CS5#TR; Number of Outputs: 1; PackageReference: S5-5; PackageDescription: 5-Pin Plastic SOT-23, Body 1.625 x 2.90 mm, Pitch 0.95 mm; Supplier 1: Digi-Key; Supplier Part Number 1: LT1613CS5#TR-ND; RoHS: FALSE
footprint LT-S5-5-SOT-23_N (SOT23, 5-Leads, Body 3x1.75mm, Pitch 0.95mm, IPC Medium Density)
footprint LT-S5-5-SOT-23_L (SOT23, 5-Leads, Body 3x1.75mm, Pitch 0.95mm, IPC High Density)
footprint LT-S5-5-SOT-23_M (SOT23, 5-Leads, Body 3x1.75mm, Pitch 0.95mm, IPC Low Density)
pins: 1 SW (power) "Switch Pin. Connect inductor/diode here. Minimize trace at this pin to reduce EMI.", 2 GND (power) "Ground Pin. Tie directly to local ground plane.", 3 FB (in) "Feedback Pin.", 4 ~{SHDN} (in) "Shutdown Pin.", 5 VIN (power) "Input Supply Pin. Must be locally bypassed."

## LT1613CS5#TRM
designator U?
1.4 MHz, Single Cell DC/DC Converter, 5-pin SOT23 (S5-5), 0 to 70 degC, Mini Tape and Reel; Manufacturer: Linear Technology; PartNumber: LT1613CS5#TRM; Number of Outputs: 1; PackageReference: S5-5; PackageDescription: 5-Pin Plastic SOT-23, Body 1.625 x 2.90 mm, Pitch 0.95 mm; Supplier 1: Digi-Key; Supplier Part Number 1: LT1613CS5#TRMTR-ND; RoHS: FALSE
footprint LT-S5-5-SOT-23_N (SOT23, 5-Leads, Body 3x1.75mm, Pitch 0.95mm, IPC Medium Density)
footprint LT-S5-5-SOT-23_L (SOT23, 5-Leads, Body 3x1.75mm, Pitch 0.95mm, IPC High Density)
footprint LT-S5-5-SOT-23_M (SOT23, 5-Leads, Body 3x1.75mm, Pitch 0.95mm, IPC Low Density)
pins: 1 SW (power) "Switch Pin. Connect inductor/diode here. Minimize trace at this pin to reduce EMI.", 2 GND (power) "Ground Pin. Tie directly to local ground plane.", 3 FB (in) "Feedback Pin.", 4 ~{SHDN} (in) "Shutdown Pin.", 5 VIN (power) "Input Supply Pin. Must be locally bypassed."

## LT1613CS5#TRMPBF
designator U?
1.4 MHz, Single Cell DC/DC Converter, 5-pin SOT23 (S5-5), 0 to 70 degC, Pb-Free, Mini Tape and Reel; Manufacturer: Linear Technology; PartNumber: LT1613CS5#TRMPBF; Number of Outputs: 1; PackageReference: S5-5; PackageDescription: 5-Pin Plastic SOT-23, Body 1.625 x 2.90 mm, Pitch 0.95 mm; Supplier 1: Digi-Key; Supplier Part Number 1: LT1613CS5#TRMPBFTR-ND; RoHS: TRUE
footprint LT-S5-5-SOT-23_N (SOT23, 5-Leads, Body 3x1.75mm, Pitch 0.95mm, IPC Medium Density)
footprint LT-S5-5-SOT-23_L (SOT23, 5-Leads, Body 3x1.75mm, Pitch 0.95mm, IPC High Density)
footprint LT-S5-5-SOT-23_M (SOT23, 5-Leads, Body 3x1.75mm, Pitch 0.95mm, IPC Low Density)
pins: 1 SW (power) "Switch Pin. Connect inductor/diode here. Minimize trace at this pin to reduce EMI.", 2 GND (power) "Ground Pin. Tie directly to local ground plane.", 3 FB (in) "Feedback Pin.", 4 ~{SHDN} (in) "Shutdown Pin.", 5 VIN (power) "Input Supply Pin. Must be locally bypassed."

## LT1613CS5#TRPBF
designator U?
1.4 MHz, Single Cell DC/DC Converter, 5-pin SOT23 (S5-5), 0 to 70 degC, Pb-Free, Tape and Reel; Manufacturer: Linear Technology; PartNumber: LT1613CS5#TRPBF; Number of Outputs: 1; PackageReference: S5-5; PackageDescription: 5-Pin Plastic SOT-23, Body 1.625 x 2.90 mm, Pitch 0.95 mm; Supplier 1: Digi-Key; Supplier Part Number 1: LT1613CS5#TRPBF-ND; RoHS: TRUE
footprint LT-S5-5-SOT-23_N (SOT23, 5-Leads, Body 3x1.75mm, Pitch 0.95mm, IPC Medium Density)
footprint LT-S5-5-SOT-23_L (SOT23, 5-Leads, Body 3x1.75mm, Pitch 0.95mm, IPC High Density)
footprint LT-S5-5-SOT-23_M (SOT23, 5-Leads, Body 3x1.75mm, Pitch 0.95mm, IPC Low Density)
pins: 1 SW (power) "Switch Pin. Connect inductor/diode here. Minimize trace at this pin to reduce EMI.", 2 GND (power) "Ground Pin. Tie directly to local ground plane.", 3 FB (in) "Feedback Pin.", 4 ~{SHDN} (in) "Shutdown Pin.", 5 VIN (power) "Input Supply Pin. Must be locally bypassed."

## LT1614CMS8
designator U?
Inverting 600 KHz Switching Regulator, 8-pin SOP (MS8-8), 0 to 70 degC; Manufacturer: Linear Technology; PartNumber: LT1614CMS8; Number of Outputs: 1; PackageReference: MS8; PackageDescription: 8-Pin Plastic MSOP, Body 3 x 3 mm, Pitch 0.65 mm; Supplier 1: Digi-Key; Supplier Part Number 1: LT1614CMS8-ND; RoHS: FALSE
footprint LT-MS8_N (SOP, 8-Leads, Body 3.1x3.1mm, Pitch 0.65mm, IPC Medium Density)
footprint LT-MS8_L (SOP, 8-Leads, Body 3.1x3.1mm, Pitch 0.65mm, IPC High Density)
footprint LT-MS8_M (SOP, 8-Leads, Body 3.1x3.1mm, Pitch 0.65mm, IPC Low Density)
pins: 1 NFB (in) "Negative Feedback Pin. Reference voltage is -1.24V. Connect resistive divider tap here. The suggested value for R2 is 24.9k.", 2 VC "Compensation Pin for Error Amplifier. Connect a series RC from this pin to ground. Typical values are 100k ohm and 1nF. Minimize trace area at VC.", 3 ~{SHDN} (in) "Shutdown. Ground this pin to turn off switcher. Must be tied to VIN (or higher voltage) to enable switcher. Do not float the S\H\D\N\ pin.", 4 GND (power) "Ground. Connect directly to local ground plane.", 5 SW (power) "Switch Pin. Minimize trace area at this pin to keep EMI down.", 6 VIN (power) "Supply Pin. Must have 1uF ceramic bypass capacitor right at the pin, connected directly to ground.", 7 LBI (in) "Low-Battery Detector Input. 200mV reference. Voltage on LBI must stay between ground and 700mV. Float this pin if not used.", 8 LBO (hiz) "Low-Battery Detector Output. Open collector, can sink 10uA. A 1Mohm pull-up is recommended. Float this pin if not used. The low-battery detector is disabled when S\H\D\N\ is low. LBO is high-Z in this state."

## LT1614CMS8#PBF
designator U?
Inverting 600 KHz Switching Regulator, 8-pin SOP (MS8-8), 0 to 70 degC, Pb-Free; Manufacturer: Linear Technology; PartNumber: LT1614CMS8#PBF; Number of Outputs: 1; PackageReference: MS8; PackageDescription: 8-Pin Plastic MSOP, Body 3 x 3 mm, Pitch 0.65 mm; Supplier 1: Digi-Key; Supplier Part Number 1: LT1614CMS8#PBF-ND; RoHS: TRUE
footprint LT-MS8_N (SOP, 8-Leads, Body 3.1x3.1mm, Pitch 0.65mm, IPC Medium Density)
footprint LT-MS8_L (SOP, 8-Leads, Body 3.1x3.1mm, Pitch 0.65mm, IPC High Density)
footprint LT-MS8_M (SOP, 8-Leads, Body 3.1x3.1mm, Pitch 0.65mm, IPC Low Density)
pins: 1 NFB (in) "Negative Feedback Pin. Reference voltage is -1.24V. Connect resistive divider tap here. The suggested value for R2 is 24.9k.", 2 VC "Compensation Pin for Error Amplifier. Connect a series RC from this pin to ground. Typical values are 100k ohm and 1nF. Minimize trace area at VC.", 3 ~{SHDN} (in) "Shutdown. Ground this pin to turn off switcher. Must be tied to VIN (or higher voltage) to enable switcher. Do not float the S\H\D\N\ pin.", 4 GND (power) "Ground. Connect directly to local ground plane.", 5 SW (power) "Switch Pin. Minimize trace area at this pin to keep EMI down.", 6 VIN (power) "Supply Pin. Must have 1uF ceramic bypass capacitor right at the pin, connected directly to ground.", 7 LBI (in) "Low-Battery Detector Input. 200mV reference. Voltage on LBI must stay between ground and 700mV. Float this pin if not used.", 8 LBO (hiz) "Low-Battery Detector Output. Open collector, can sink 10uA. A 1Mohm pull-up is recommended. Float this pin if not used. The low-battery detector is disabled when S\H\D\N\ is low. LBO is high-Z in this state."

## LT1614CMS8#TR
designator U?
Inverting 600 KHz Switching Regulator, 8-pin SOP (MS8-8), 0 to 70 degC, Tape and Reel; Manufacturer: Linear Technology; PartNumber: LT1614CMS8#TR; Number of Outputs: 1; PackageReference: MS8; PackageDescription: 8-Pin Plastic MSOP, Body 3 x 3 mm, Pitch 0.65 mm; Supplier 1: Digi-Key; Supplier Part Number 1: LT1614CMS8#TR-ND; RoHS: FALSE
footprint LT-MS8_N (SOP, 8-Leads, Body 3.1x3.1mm, Pitch 0.65mm, IPC Medium Density)
footprint LT-MS8_L (SOP, 8-Leads, Body 3.1x3.1mm, Pitch 0.65mm, IPC High Density)
footprint LT-MS8_M (SOP, 8-Leads, Body 3.1x3.1mm, Pitch 0.65mm, IPC Low Density)
pins: 1 NFB (in) "Negative Feedback Pin. Reference voltage is -1.24V. Connect resistive divider tap here. The suggested value for R2 is 24.9k.", 2 VC "Compensation Pin for Error Amplifier. Connect a series RC from this pin to ground. Typical values are 100k ohm and 1nF. Minimize trace area at VC.", 3 ~{SHDN} (in) "Shutdown. Ground this pin to turn off switcher. Must be tied to VIN (or higher voltage) to enable switcher. Do not float the S\H\D\N\ pin.", 4 GND (power) "Ground. Connect directly to local ground plane.", 5 SW (power) "Switch Pin. Minimize trace area at this pin to keep EMI down.", 6 VIN (power) "Supply Pin. Must have 1uF ceramic bypass capacitor right at the pin, connected directly to ground.", 7 LBI (in) "Low-Battery Detector Input. 200mV reference. Voltage on LBI must stay between ground and 700mV. Float this pin if not used.", 8 LBO (hiz) "Low-Battery Detector Output. Open collector, can sink 10uA. A 1Mohm pull-up is recommended. Float this pin if not used. The low-battery detector is disabled when S\H\D\N\ is low. LBO is high-Z in this state."

## LT1614CMS8#TRPBF
designator U?
Inverting 600 KHz Switching Regulator, 8-pin SOP (MS8-8), 0 to 70 degC, Pb-Free, Tape and Reel; Manufacturer: Linear Technology; PartNumber: LT1614CMS8#TRPBF; Number of Outputs: 1; PackageReference: MS8; PackageDescription: 8-Pin Plastic MSOP, Body 3 x 3 mm, Pitch 0.65 mm; Supplier 1: Digi-Key; Supplier Part Number 1: LT1614CMS8#TRPBF-ND; RoHS: TRUE
footprint LT-MS8_N (SOP, 8-Leads, Body 3.1x3.1mm, Pitch 0.65mm, IPC Medium Density)
footprint LT-MS8_L (SOP, 8-Leads, Body 3.1x3.1mm, Pitch 0.65mm, IPC High Density)
footprint LT-MS8_M (SOP, 8-Leads, Body 3.1x3.1mm, Pitch 0.65mm, IPC Low Density)
pins: 1 NFB (in) "Negative Feedback Pin. Reference voltage is -1.24V. Connect resistive divider tap here. The suggested value for R2 is 24.9k.", 2 VC "Compensation Pin for Error Amplifier. Connect a series RC from this pin to ground. Typical values are 100k ohm and 1nF. Minimize trace area at VC.", 3 ~{SHDN} (in) "Shutdown. Ground this pin to turn off switcher. Must be tied to VIN (or higher voltage) to enable switcher. Do not float the S\H\D\N\ pin.", 4 GND (power) "Ground. Connect directly to local ground plane.", 5 SW (power) "Switch Pin. Minimize trace area at this pin to keep EMI down.", 6 VIN (power) "Supply Pin. Must have 1uF ceramic bypass capacitor right at the pin, connected directly to ground.", 7 LBI (in) "Low-Battery Detector Input. 200mV reference. Voltage on LBI must stay between ground and 700mV. Float this pin if not used.", 8 LBO (hiz) "Low-Battery Detector Output. Open collector, can sink 10uA. A 1Mohm pull-up is recommended. Float this pin if not used. The low-battery detector is disabled when S\H\D\N\ is low. LBO is high-Z in this state."

## LT1614CS8
designator U?
Inverting 600 KHz Switching Regulator, 8-pin SOIC (S8-8), 0 to 70 degc; Manufacturer: Linear Technology; PartNumber: LT1614CS8; Number of Outputs: 1; PackageReference: S8-8; PackageDescription: 8-Pin Plastic Small Outline (Narrow .150 Inch), Body 4.9 x 3.9 mm, Pitch 1.27 mm; Supplier 1: Digi-Key; Supplier Part Number 1: LT1614CS8-ND; RoHS: FALSE
footprint LT-S8-8_N (SOIC, 8-Leads, Body 5x4mm, Pitch 1.27mm, IPC Medium Density)
footprint LT-S8-8_L (SOIC, 8-Leads, Body 5x4mm, Pitch 1.27mm, IPC High Density)
footprint LT-S8-8_M (SOIC, 8-Leads, Body 5x4mm, Pitch 1.27mm, IPC Low Density)
pins: 1 NFB (in) "Negative Feedback Pin. Reference voltage is -1.24V. Connect resistive divider tap here. The suggested value for R2 is 24.9k.", 2 VC "Compensation Pin for Error Amplifier. Connect a series RC from this pin to ground. Typical values are 100k ohm and 1nF. Minimize trace area at VC.", 3 ~{SHDN} (in) "Shutdown. Ground this pin to turn off switcher. Must be tied to VIN (or higher voltage) to enable switcher. Do not float the S\H\D\N\ pin.", 4 GND (power) "Ground. Connect directly to local ground plane.", 5 SW (power) "Switch Pin. Minimize trace area at this pin to keep EMI down.", 6 VIN (power) "Supply Pin. Must have 1uF ceramic bypass capacitor right at the pin, connected directly to ground.", 7 LBI (in) "Low-Battery Detector Input. 200mV reference. Voltage on LBI must stay between ground and 700mV. Float this pin if not used.", 8 LBO (hiz) "Low-Battery Detector Output. Open collector, can sink 10uA. A 1Mohm pull-up is recommended. Float this pin if not used. The low-battery detector is disabled when S\H\D\N\ is low. LBO is high-Z in this state."

## LT1614CS8#PBF
designator U?
Inverting 600 KHz Switching Regulator, 8-pin SOIC (S8-8), 0 to 70 degc, Pb-Free; Manufacturer: Linear Technology; PartNumber: LT1614CS8#PBF; Number of Outputs: 1; PackageReference: S8-8; PackageDescription: 8-Pin Plastic Small Outline (Narrow .150 Inch), Body 4.9 x 3.9 mm, Pitch 1.27 mm; Supplier 1: Digi-Key; Supplier Part Number 1: LT1614CS8#PBF-ND; RoHS: TRUE
footprint LT-S8-8_N (SOIC, 8-Leads, Body 5x4mm, Pitch 1.27mm, IPC Medium Density)
footprint LT-S8-8_L (SOIC, 8-Leads, Body 5x4mm, Pitch 1.27mm, IPC High Density)
footprint LT-S8-8_M (SOIC, 8-Leads, Body 5x4mm, Pitch 1.27mm, IPC Low Density)
pins: 1 NFB (in) "Negative Feedback Pin. Reference voltage is -1.24V. Connect resistive divider tap here. The suggested value for R2 is 24.9k.", 2 VC "Compensation Pin for Error Amplifier. Connect a series RC from this pin to ground. Typical values are 100k ohm and 1nF. Minimize trace area at VC.", 3 ~{SHDN} (in) "Shutdown. Ground this pin to turn off switcher. Must be tied to VIN (or higher voltage) to enable switcher. Do not float the S\H\D\N\ pin.", 4 GND (power) "Ground. Connect directly to local ground plane.", 5 SW (power) "Switch Pin. Minimize trace area at this pin to keep EMI down.", 6 VIN (power) "Supply Pin. Must have 1uF ceramic bypass capacitor right at the pin, connected directly to ground.", 7 LBI (in) "Low-Battery Detector Input. 200mV reference. Voltage on LBI must stay between ground and 700mV. Float this pin if not used.", 8 LBO (hiz) "Low-Battery Detector Output. Open collector, can sink 10uA. A 1Mohm pull-up is recommended. Float this pin if not used. The low-battery detector is disabled when S\H\D\N\ is low. LBO is high-Z in this state."